# EAGLE library part TRS3243EIPW (library Traficon)
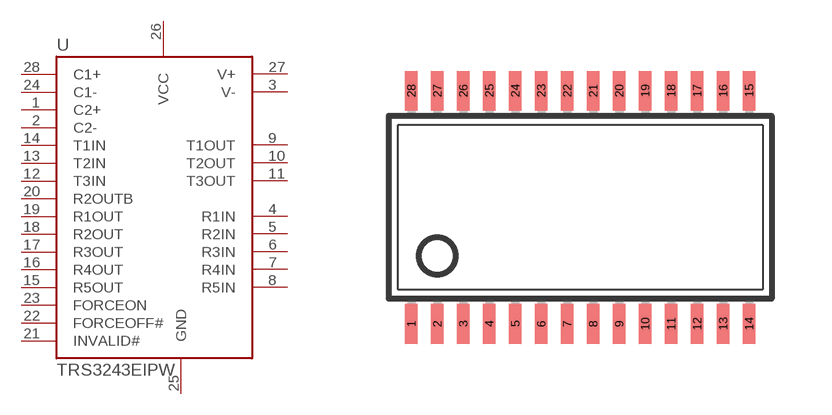
[diagram p178: symbol with the pads of TSSOP28; footprint TSSOP28]

Designator prefix U

## TRS3243EIPW  [TSSOP28]
1  C2+  pas
2  C2-  pas
3  V-  pwr
4  R1IN  in
5  R2IN  in
6  R3IN  in
7  R4IN  in
8  R5IN  in
9  T1OUT  out
10  T2OUT  out
11  T3OUT  out
12  T3IN  in
13  T2IN  in
14  T1IN  in
15  R5OUT  out
16  R4OUT  out
17  R3OUT  out
18  R2OUT  out
19  R1OUT  out
20  R2OUTB  out
21  INVALID#  out
22  FORCEOFF#  in
23  FORCEON  in
24  C1-  pas
25  GND  sup
26  VCC  sup
27  V+  pwr
28  C1+  pas

## Footprint TSSOP28 (pad centres in mm)
Thin Shrink Small Outline Plastic 28 MAX3223-MAX3243.pdf
smd 0.305 x 0.991: 1 -4.225,-2.918; 2 -3.575,-2.918; 3 -2.925,-2.918; 4 -2.275,-2.918; 5 -1.625,-2.918; 6 -0.975,-2.918; 7 -0.325,-2.918; 8 0.325,-2.918; 9 0.975,-2.918; 10 1.625,-2.918; 11 2.275,-2.918; 12 2.925,-2.918; 13 3.575,-2.918; 14 4.225,-2.918; 15 4.225,2.918; 16 3.575,2.918; 17 2.925,2.918; 18 2.275,2.918; 19 1.625,2.918; 20 0.975,2.918; 21 0.325,2.918; 22 -0.325,2.918; 23 -0.975,2.918; 24 -1.625,2.918; 25 -2.275,2.918; 26 -2.925,2.918; 27 -3.575,2.918; 28 -4.225,2.918